# Altium schematic symbol library BQ34Z100PWR-G1.SchLib: 1 symbol
Pins are listed as number, name and electrical type; pins without a type are passive.

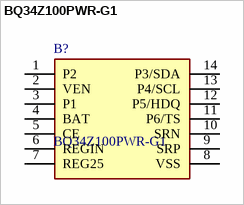
[diagram p0: symbol BQ34Z100PWR-G1]

## BQ34Z100PWR-G1
designator B?
Multi-Chemistry Impedance Track Standalone Fuel Gauge | Battery Gas Gauge; Manufacturer_Name: Texas Instruments; Geometry.Height: 1.2mm; Manufacturer_Part_Number: BQ34Z100PWR-G1; Mouser Part Number: 595-BQ34Z100PWR-G1; Mouser Price/Stock: https://www.mouser.co.uk/ProductDetail/Texas-Instruments/BQ34Z100PWR-G1?qs=igE0IiKpbrGE%2FNmDcdE48w%3D%3D; Arrow Part Number: BQ34Z100PWR-G1; Arrow Price/Stock: https://www.arrow.com/en/products/bq34z100pwr-g1/texas-instruments?utm_currency=USD&region=nac; Datasheet Link: http://www.ti.com/lit/ds/symlink/bq34z100-g1.pdf
footprint SOP65P640X120-14N
pins: 1 P2, 2 VEN, 3 P1, 4 BAT, 5 CE, 6 REGIN, 7 REG25, 8 VSS, 9 SRP, 10 SRN, 11 P6/TS, 12 P5/HDQ, 13 P4/SCL, 14 P3/SDA